# Altium schematic symbol library GANF.Schlib: 1 symbol
Pins are listed as number, name and electrical type; pins without a type are passive.

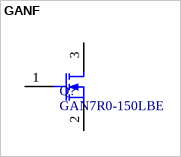
[diagram p0: symbol GANF]

## GANF
designator Q?, comment GAN7R0-150LBE
N-Channel MOSFET
pins: 1 G, 2 S, 3 D